# Altium schematic symbol library interface_transceivers.SchLib: 1 symbol
Pins are listed as number, name and electrical type; pins without a type are passive.

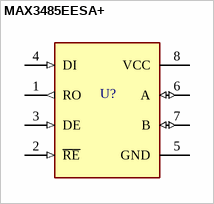
[diagram p0: symbol MAX3485EESA+]

## MAX3485EESA+
designator U?  (value not drawn)
Low-power, 3.3V RS-485/RS-422 Transceiver, Half-Duplex; Manufacturer: Maxim Integrated / Analog Devices; MPN: MAX3485ESA+T; Interface: RS-485, RS-422; Number of transmitters: 1; Min Supply Voltage: 3V; Max Supply Voltage: 3.6V; Data rate: 10 Mbps; Number of receivers: 1; Operating temperature range: -40°C to +85°C; Datasheet: https://www.analog.com/media/en/technical-documentation/data-sheets/MAX3483-MAX3491.pdf
footprint SOIC8 (SOIC8, pitch 1.27mm)
pins: 1 RO (out), 2 ~{RE} (in), 3 DE (in), 4 DI (in), 5 GND (power), 6 A (io), 7 B (io), 8 VCC (oe)